# Altium schematic symbol library lib_protoboard.SchLib: 15 symbols
Pins are listed as number, name and electrical type; pins without a type are passive.

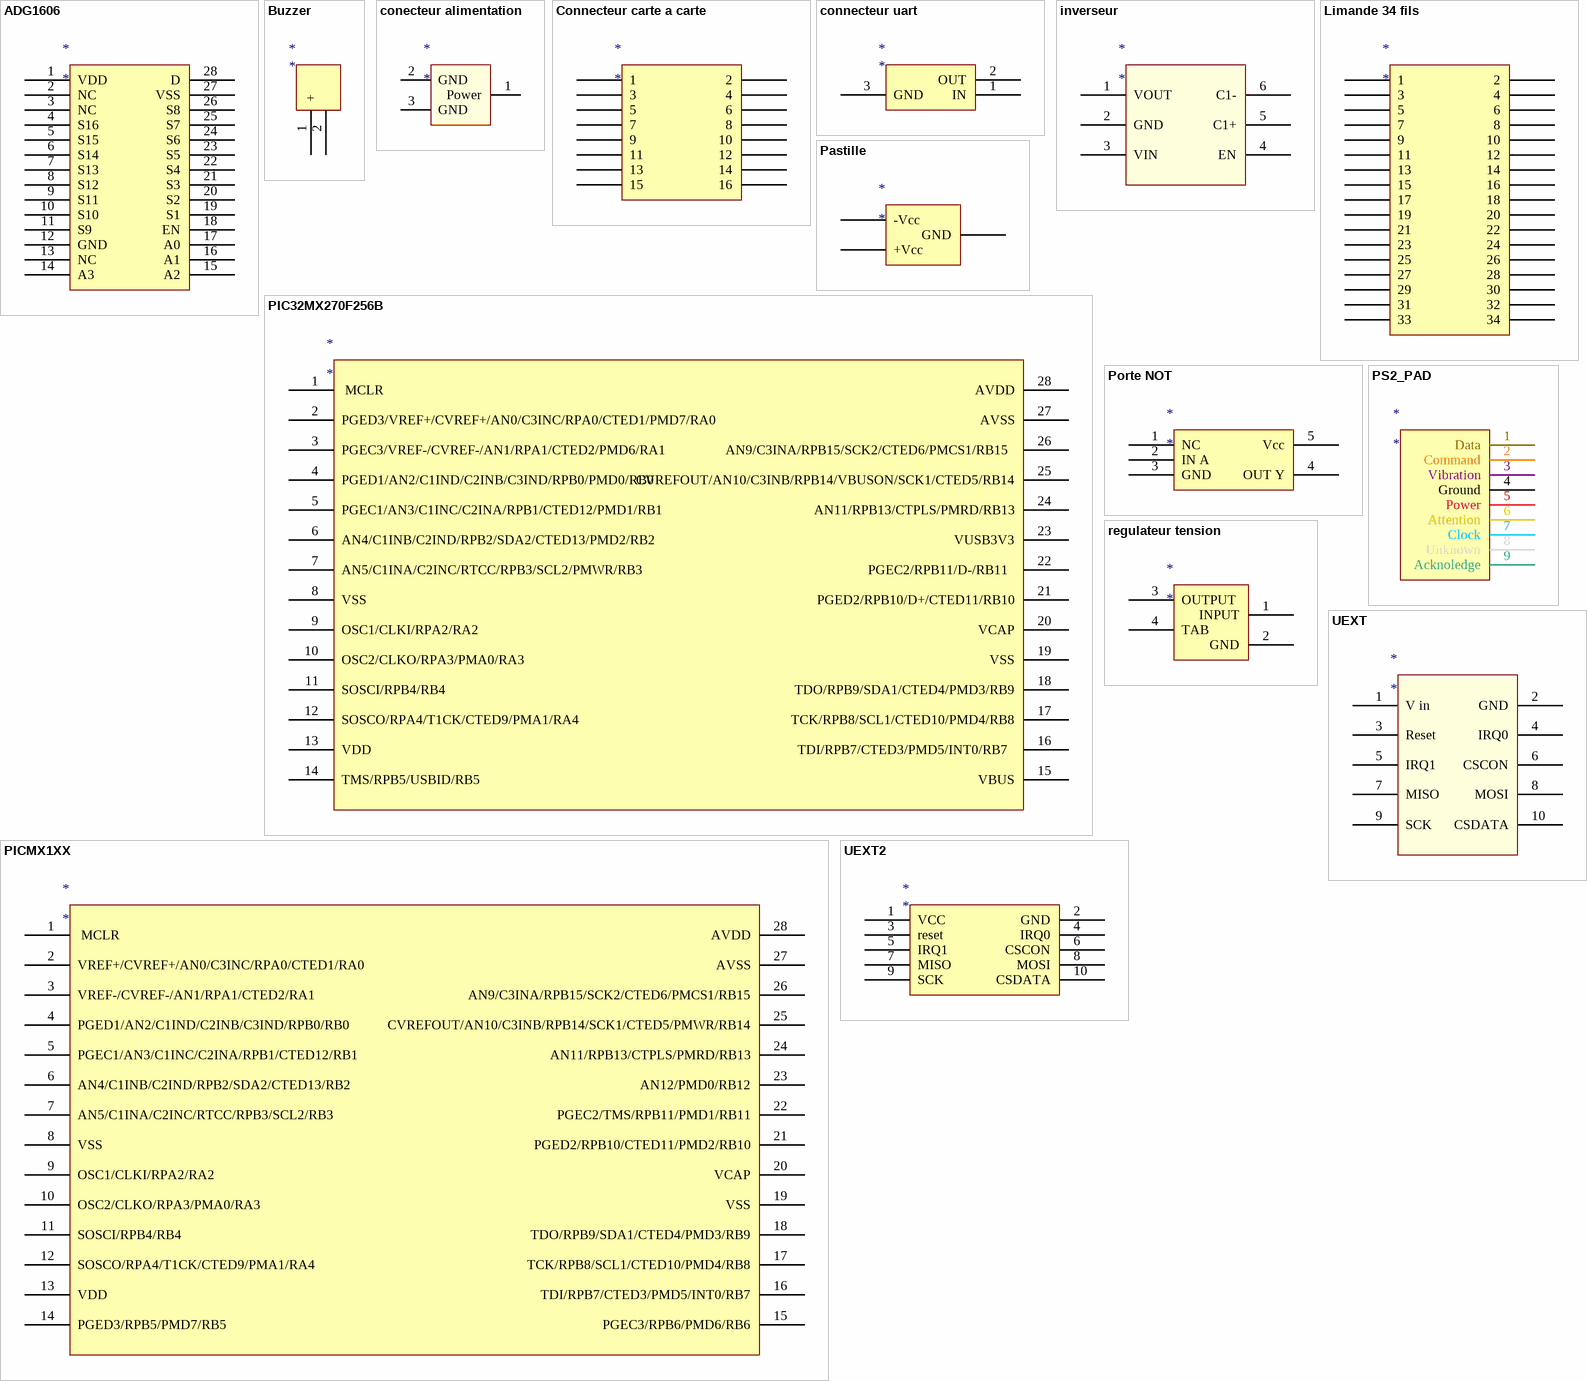
[diagram p0: symbols ADG1606 to UEXT2]

## ADG1606
designator *
pins: 1 VDD "Most Positive Power Supply Potential.", 2 NC "No Connect.", 3 NC "No Connect.", 4 S16 "Source Terminal 16. This pin can be an input or an output.", 5 S15 "Source Terminal 15. This pin can be an input or an output.", 6 S14 "Source Terminal 14. This pin can be an input or an output.", 7 S13 "Source Terminal 13. This pin can be an input or an output.", 8 S12 "Source Terminal 12. This pin can be an input or an output.", 9 S11 "Source Terminal 11. This pin can be an input or an output.", 10 S10 "Source Terminal 10. This pin can be an input or an output.", 11 S9 "Source Terminal 9. This pin can be an input or an output.", 12 GND "Ground (0 V) Reference.", 13 NC "No Connect.", 14 A3 "Logic Control Input.", 15 A2 "Logic Control Input.", 16 A1 "Logic Control Input.", 17 A0 "Logic Control Input.", 18 EN "Active High Digital Input. When this pin is low, the device is disabled and all switches are turned off. When this pin is high, the Ax logic inputs determine which switch is turned on.", 19 S1 "Source Terminal 1. This pin can be an input or an output.", 20 S2 "Source Terminal 2. This pin can be an input or an output.", 21 S3 "Source Terminal 3. This pin can be an input or an output.", 22 S4 "Source Terminal 4. This pin can be an input or an output.", 23 S5 "Source Terminal 5. This pin can be an input or an output.", 24 S6 "Source Terminal 6. This pin can be an input or an output.", 25 S7 "Source Terminal 7. This pin can be an input or an output.", 26 S8 "Source Terminal 8. This pin can be an input or an output.", 27 VSS "Most Negative Power Supply Potential. In single-supply applications, this pin can be connected to ground.", 28 D "Drain Terminal. This pin can be an input or an output."

## Buzzer
designator *
pins: 1 +, 2 -

## conecteur alimentation
designator *
pins: 1 Power (power), 2 GND, 3 GND

## Connecteur carte a carte
designator *
pins: 1, 2, 3, 4, 5, 6, 7, 8, 9, 10, 11, 12, 13, 14, 15, 16

## connecteur uart
designator *
pins: 1 IN, 2 OUT, 3 GND

## inverseur
designator *
pins: 1 VOUT, 2 GND, 3 VIN, 4 EN, 5 C1+, 6 C1-

## Limande 34 fils
designator *
pins: 1, 2, 3, 4, 5, 6, 7, 8, 9, 10, 11, 12, 13, 14, 15, 16, 17, 18, 19, 20, 21, 22, 23, 24, 25, 26, 27, 28, 29, 30, 31, 32, 33, 34

## Pastille
designator *
pins: +Vcc, -Vcc, GND

## PIC32MX270F256B
designator *
pins: 1  MCLR (power), 2 PGED3/VREF+/CVREF+/AN0/C3INC/RPA0/CTED1/PMD7/RA0 (power), 3 PGEC3/VREF-/CVREF-/AN1/RPA1/CTED2/PMD6/RA1 (power), 4 PGED1/AN2/C1IND/C2INB/C3IND/RPB0/PMD0/RB0 (power), 5 PGEC1/AN3/C1INC/C2INA/RPB1/CTED12/PMD1/RB1 (power), 6 AN4/C1INB/C2IND/RPB2/SDA2/CTED13/PMD2/RB2 (power), 7 AN5/C1INA/C2INC/RTCC/RPB3/SCL2/PMWR/RB3 (power), 8 VSS (power), 9 OSC1/CLKI/RPA2/RA2 (power), 10 OSC2/CLKO/RPA3/PMA0/RA3 (power), 11 SOSCI/RPB4/RB4 (power), 12 SOSCO/RPA4/T1CK/CTED9/PMA1/RA4 (power), 13 VDD (power), 14 TMS/RPB5/USBID/RB5 (power), 15 VBUS (power), 16  TDI/RPB7/CTED3/PMD5/INT0/RB7   (power), 17 TCK/RPB8/SCL1/CTED10/PMD4/RB8 (power), 18 TDO/RPB9/SDA1/CTED4/PMD3/RB9 (power), 19 VSS (power), 20 VCAP (power), 21 PGED2/RPB10/D+/CTED11/RB10 (power), 22 PGEC2/RPB11/D-/RB11   (power), 23 VUSB3V3 (power), 24 AN11/RPB13/CTPLS/PMRD/RB13 (power), 25 CVREFOUT/AN10/C3INB/RPB14/VBUSON/SCK1/CTED5/RB14 (power), 26  AN9/C3INA/RPB15/SCK2/CTED6/PMCS1/RB15   (power), 27 AVSS (power), 28 AVDD (power)

## PICMX1XX
designator *
pins: 1  MCLR (power), 2 VREF+/CVREF+/AN0/C3INC/RPA0/CTED1/RA0 (power), 3 VREF-/CVREF-/AN1/RPA1/CTED2/RA1 (power), 4 PGED1/AN2/C1IND/C2INB/C3IND/RPB0/RB0 (power), 5 PGEC1/AN3/C1INC/C2INA/RPB1/CTED12/RB1 (power), 6 AN4/C1INB/C2IND/RPB2/SDA2/CTED13/RB2 (power), 7 AN5/C1INA/C2INC/RTCC/RPB3/SCL2/RB3 (power), 8 VSS (power), 9 OSC1/CLKI/RPA2/RA2 (power), 10 OSC2/CLKO/RPA3/PMA0/RA3 (power), 11 SOSCI/RPB4/RB4 (power), 12 SOSCO/RPA4/T1CK/CTED9/PMA1/RA4 (power), 13 VDD (power), 14 PGED3/RPB5/PMD7/RB5 (power), 15 PGEC3/RPB6/PMD6/RB6 (power), 16 TDI/RPB7/CTED3/PMD5/INT0/RB7 (power), 17 TCK/RPB8/SCL1/CTED10/PMD4/RB8 (power), 18 TDO/RPB9/SDA1/CTED4/PMD3/RB9 (power), 19 VSS (power), 20 VCAP (power), 21 PGED2/RPB10/CTED11/PMD2/RB10 (power), 22 PGEC2/TMS/RPB11/PMD1/RB11 (power), 23 AN12/PMD0/RB12 (power), 24 AN11/RPB13/CTPLS/PMRD/RB13 (power), 25 CVREFOUT/AN10/C3INB/RPB14/SCK1/CTED5/PMWR/RB14 (power), 26 AN9/C3INA/RPB15/SCK2/CTED6/PMCS1/RB15 (power), 27 AVSS (power), 28 AVDD (power)

## Porte NOT
designator *
pins: 1 NC, 2 IN A, 3 GND, 4 OUT Y, 5 Vcc

## PS2_PAD
designator *
pins: 1 Data, 2 Command, 3 Vibration, 4 Ground, 5 Power, 6 Attention, 7 Clock, 8 Unknown, 9 Acknoledge

## regulateur tension
designator *
pins: 1 INPUT, 2 GND, 3 OUTPUT, 4 TAB

## UEXT
designator *
pins: 1 V in, 2 GND, 3 Reset, 4 IRQ0, 5 IRQ1, 6 CSCON, 7 MISO, 8 MOSI, 9 SCK, 10 CSDATA

## UEXT2
designator *
pins: 1 VCC, 2 GND, 3 reset, 4 IRQ0, 5 IRQ1, 6 CSCON, 7 MISO, 8 MOSI, 9 SCK, 10 CSDATA